# EAGLE library part PIN-HEADER-SMT(1.27MM)2X5 (library FaBo-PIN)
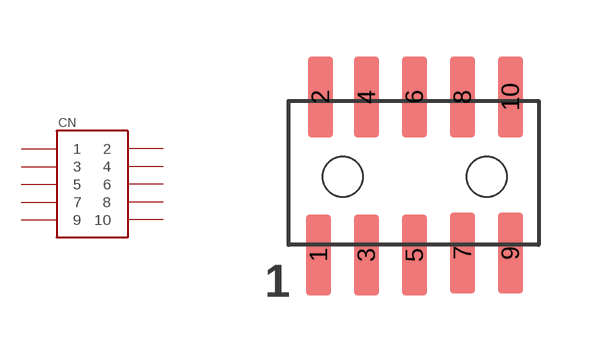
[diagram p25: symbol with the pads of PIN-HEADER-SMT(1.27MM)2X5; footprint PIN-HEADER-SMT(1.27MM)2X5]

Designator prefix CN

## PIN-HEADER-SMT(1.27MM)2X5  [PIN-HEADER-SMT(1.27MM)2X5]
1  1
2  2
3  3
4  4
5  5
6  6
7  7
8  8
9  9
10  10

## Footprint PIN-HEADER-SMT(1.27MM)2X5 (pad centres in mm)
smd 0.635 x 2.032: 1 -2.4,-1.95; 2 -2.35,2; 3 -1.2,-1.95; 4 -1.2,2; 5 0,-1.95; 6 0,2; 7 1.2,-1.9; 8 1.2,2; 9 2.4,-1.9; 10 2.4,2
hole 1 at 1.8,0
hole 1 at -1.8,0